# EAGLE library part SW_PUSH_DPDT (library dp_devices)
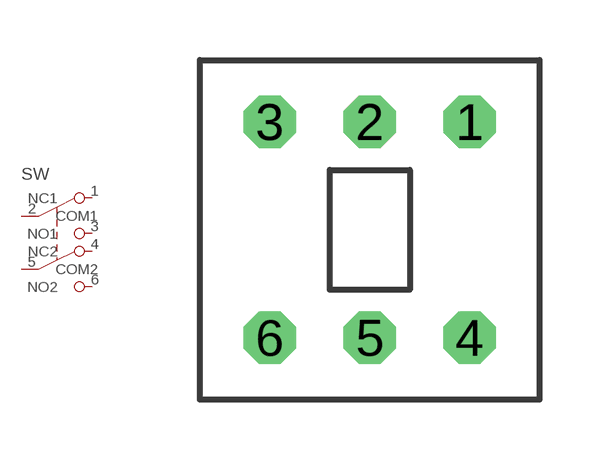
[diagram p91: symbol with the pads of SW_PUSH_BUTTON_MINI; footprint SW_PUSH_BUTTON_MINI]

Designator prefix SW

## SW_PUSH_DPDT  [SW_PUSH_BUTTON_MINI]
1  NC1  pas
2  COM1  pas
3  NO1  pas
4  NC2  pas
5  COM2  pas
6  NO2  pas

## Footprint SW_PUSH_BUTTON_MINI (pad centres in mm)
drill 0.8 octagon: 1 2.5,2.7; 2 0,2.7; 3 -2.5,2.7; 4 2.5,-2.7; 5 0,-2.7; 6 -2.5,-2.7